# Altium schematic symbol library Schlib1.SchLib: 8 symbols
Pins are listed as number, name and electrical type; pins without a type are passive.

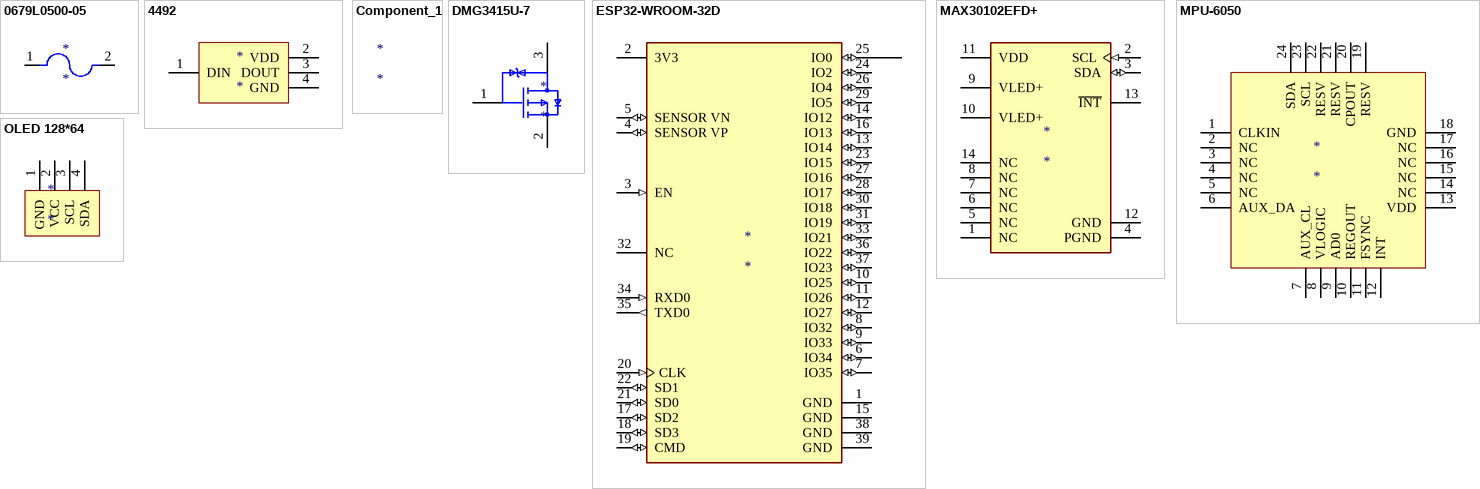
[diagram p0: symbols 0679L0500-05 to OLED 128*64]

## 0679L0500-05
designator *
Fuse Brd Mnt 500MA 125VAC/VDC; Manufacturer: Bel; Manufacturer Part Number: 0679L0500-05; Fuse Type: Board Mount (Cartridge Style Excluded); Voltage Rating (AC): 125V; DC Cold Resistance: 240mR; Approvals: cURus; Supplier 1: Digi-Key; RoHS: Yes; Category: Fuses; Stock 1: 4711; Pricing 1: 1=0.32000, 5=0.31000, 10=0.29600, 50=0.26400, 100=0.24570, 250=0.21840, 500=0.18200, 1000=0.17290 (USD); Mount: Surface Mount; Case/Package: 2410; Case Code (Imperial): 2410; Case Code (Metric): 6125; Min Operating Temperature: -55°C; Max Operating Temperature: 125°C; Packaging: Tape and Reel; Current Rating: 500mA; Voltage Rating (DC): 125V; Length: 0.24inch; Width: 0.1inch; Height: 0.11inch; ComponentLink1URL: http://www.belfuse.com/resources/CircuitProtection/datasheets/0679L%20Sep2016.pdf?src-supplier=Digi-Key; ComponentLink1Description: http://www.belfuse.com/resources/CircuitProtection/datasheets/0679L%20Sep2016.pdf?src-supplier=Digi-Key; Supplier Part Number 1: 507-1983-1-ND
footprint FUSE
pins: 1, 2

## 4492
designator *
Manufacturer: Adafruit Industries; Manufacturer Part Number: 4492; Supplier 1: Newark; RoHS: No; Pricing 1: 1=3.95000 (USD); Supplier Part Number 1: 54AH5116
footprint LED adafruit
pins: 1 DIN, 2 VDD, 3 DOUT, 4 GND

## Component_1
designator *

## DMG3415U-7
designator *
MOSFET P-CH 20V 4A SOT-23; Manufacturer: Diodes; Manufacturer Part Number: DMG3415U-7; Rise Time: 117ns; Gate to Source Voltage (Vgs): 8V; Fall Time: 393ns; Turn-Off Delay Time: 795ns; Turn-On Delay Time: 71ns; Rds On Max: 39mR; Input Capacitance: 294pF; Max Power Dissipation: 900mW; Number of Elements: 1; Drain to Source Resistance: 42.5mR; Element Configuration: Single; Drain to Source Breakdown Voltage: -20V; Nominal Vgs: -550mV; Polarity: P-CHANNEL; Supplier 1: Digi-Key; RoHS: Yes; Category: MOSFETs; Stock 1: 24000; Pricing 1: 1=0.43000, 10=0.30500, 25=0.29160, 100=0.15370, 500=0.13620, 1000=0.10600 (USD); Mount: Surface Mount; Case/Package: SOT-23; Number of Pins: 3; Weight: 0.000282oz; Contact Plating: Tin,Matte; Min Operating Temperature: -55°C; Max Operating Temperature: 150°C; Continuous Drain Current (ID): 4A; Packaging: Tape and Reel; Drain to Source Voltage (Vdss): 20V; Package Quantity: 3000; Number of Channels: 1; Power Dissipation: 900mW; On-State Resistance: 42.5mR; Threshold Voltage: -550mV; Series: -; Drain-source On Resistance-Max: 42.5mR; Length: 2.9mm; Width: 1.3mm; Height: 1mm; Radiation Hardening: No; REACH SVHC: No SVHC; Lead Free: Lead Free; RoHS Compliant: Yes; ComponentLink1URL: https://datasheet.ciiva.com/11174/ds31735-11174977.pdf?src-supplier=Avnet; ComponentLink1Description: https://datasheet.ciiva.com/11174/ds31735-11174977.pdf?src-supplier=Avnet; ComponentLink2URL: https://datasheet.ciiva.com/13061/ds31735-64958-13061831.pdf?src-supplier=Mouser; ComponentLink2Description: https://datasheet.ciiva.com/13061/ds31735-64958-13061831.pdf?src-supplier=Mouser; ComponentLink3URL: https://datasheet.ciiva.com/935/ds31735-935015.pdf?src-supplier=Digi-Key; ComponentLink3Description: https://datasheet.ciiva.com/935/ds31735-935015.pdf?src-supplier=Digi-Key; ComponentLink4URL: https://datasheet.ciiva.com/8023/ds31735-8023980.pdf?src-supplier=Element14; ComponentLink4Description: https://datasheet.ciiva.com/8023/ds31735-8023980.pdf?src-supplier=Element14; ComponentLink5URL: https://datasheet.ciiva.com/8115/ds31735-8115357.pdf?src-supplier=Avnet; ComponentLink5Description: https://datasheet.ciiva.com/8115/ds31735-8115357.pdf?src-supplier=Avnet; ComponentLink6URL: https://datasheet.ciiva.com/16387/ds31735-16387485.pdf?src-supplier=Future+Electronics; ComponentLink6Description: https://datasheet.ciiva.com/16387/ds31735-16387485.pdf?src-supplier=Future+Electronics; ComponentLink7URL: https://datasheet.ciiva.com/935/ds31735-935013.pdf?src-supplier=Digi-Key; ComponentLink7Description: https://datasheet.ciiva.com/935/ds31735-935013.pdf?src-supplier=Digi-Key; ComponentLink8URL: https://datasheet.ciiva.com/935/ds31735-935014.pdf?src-supplier=Digi-Key; ComponentLink8Description: https://datasheet.ciiva.com/935/ds31735-935014.pdf?src-supplier=Digi-Key; ComponentLink9URL: https://datasheet.ciiva.com/22712/1915618-22712394.pdf?src-supplier=Element14; ComponentLink9Description: https://datasheet.ciiva.com/22712/1915618-22712394.pdf?src-supplier=Element14; Supplier Part Number 1: DMG3415UDICT-ND
footprint DMG3415U
pins: 1 G, 2 S, 3 D

## ESP32-WROOM-32D
designator *
Wi-Fi/BT BLE Module ESP32-D0WD, SPI Flash, UART, P; Manufacturer: Espressif Systems; Manufacturer Part Number: ESP32-WROOM-32D; Frequency: 2.5GHz; Data Rate: 150Mbps; Interface: I2C,SPI,GPIO,PWM,SDIO,UART; Sensitivity: -98dBm; Memory Size: 536KB; Supplier 1: Conrad; RoHS: No; Category: RF Receivers, Transceivers; Pricing 1: 1=5.99000 (EUR); Mount: Surface Mount; Case/Package: SMD/SMT; Min Operating Temperature: -40°C; Max Operating Temperature: 85°C; Packaging: Cut Tape; ComponentLink1URL: https://www.espressif.com/sites/default/files/documentation/esp32-wroom-32d_esp32-wroom-32u_datasheet_en.pdf?src-supplier=Digi-Key; ComponentLink1Description: https://www.espressif.com/sites/default/files/documentation/esp32-wroom-32d_esp32-wroom-32u_datasheet_en.pdf?src-supplier=Digi-Key; Supplier Part Number 1: 1925467
pins: 1 GND (power), 2 3V3 (power), 3 EN (in), 4 SENSOR VP (io), 5 SENSOR VN (io), 6 IO34 (io), 7 IO35 (io), 8 IO32 (io), 9 IO33 (io), 10 IO25 (io), 11 IO26 (io), 12 IO27 (io), 13 IO14 (io), 14 IO12 (io), 15 GND (power), 16 IO13 (io), 17 SD2 (io), 18 SD3 (io), 19 CMD (io), 20 CLK (in), 21 SD0 (io), 22 SD1 (io), 23 IO15 (io), 24 IO2 (io), 25 IO0 (io) "GPIO0", 26 IO4 (io), 27 IO16 (io), 28 IO17 (io), 29 IO5 (io), 30 IO18 (io), 31 IO19 (io), 32 NC, 33 IO21 (io), 34 RXD0 (in), 35 TXD0 (out), 36 IO22 (io), 37 IO23 (io), 38 GND (power), 39 GND (power)

## MAX30102EFD+
designator *
IC SENSOR OXIMETER/HEARTRATE; Manufacturer: Maxim; Manufacturer Part Number: MAX30102EFD+; Min Supply Voltage: 1.7V; Max Supply Voltage: 2V; Supplier 1: Digi-Key; RoHS: Yes; Category: Decoders and Multiplexers; Stock 1: 209; Pricing 1: 1=9.76000, 10=8.81500, 25=8.40480, 100=7.29800 (USD); Number of Pins: 14; Min Operating Temperature: -40°C; Max Operating Temperature: 85°C; REACH SVHC: No SVHC; ComponentLink1URL: http://www.farnell.com/datasheets/2162814.pdf?src-supplier=Farnell; ComponentLink1Description: http://www.farnell.com/datasheets/2162814.pdf?src-supplier=Farnell; ComponentLink2URL: http://www.farnell.com/datasheets/2162814.pdf?src-supplier=Element14; ComponentLink2Description: http://www.farnell.com/datasheets/2162814.pdf?src-supplier=Element14; ComponentLink3URL: https://datasheets.maximintegrated.com/en/ds/MAX30102.pdf?src-supplier=Digi-Key; ComponentLink3Description: https://datasheets.maximintegrated.com/en/ds/MAX30102.pdf?src-supplier=Digi-Key
footprint MAX30102
pins: 1 NC, 2 SCL (in), 3 SDA (io), 4 PGND (power), 5 NC, 6 NC, 7 NC, 8 NC, 9 VLED+ (power), 10 VLED+ (power), 11 VDD (power), 12 GND (power), 13 ~{INT} (oc), 14 NC

## MPU-6050
designator *
INVENSENSE   MPU-6050   GYRO / ACCEL, 6-AXIS, I2C, QFN-24; Manufacturer: TDK InvenSense; Sensor Type: Accelerometer,Gyroscope,3 Axis; Supplier 1: Digi-Key; Manufacturer Part Number: MPU-6050; RoHS: Yes; Category: Inertial Measurement Units (IMUs); Stock 1: 4311; Pricing 1: 1=7.55000, 5=6.62600, 10=5.96300, 25=5.30000, 50=4.90260, 100=4.24000, 500=3.97500, 1000=3.71000 (USD); Mount: Surface Mount; Case/Package: QFN; Min Operating Temperature: -40°C; Max Operating Temperature: 85°C; Packaging: Tape and Reel; Output Type: I2C; ComponentLink1URL: https://datasheet.ciiva.com/1513/1788002-1513632.pdf?src-supplier=Element14; ComponentLink1Description: https://datasheet.ciiva.com/1513/1788002-1513632.pdf?src-supplier=Element14; ComponentLink2URL: https://datasheet.ciiva.com/22731/1788002-22731434.pdf?src-supplier=Element14; ComponentLink2Description: https://datasheet.ciiva.com/22731/1788002-22731434.pdf?src-supplier=Element14; Supplier Part Number 1: 1428-1007-1-ND
footprint MPU-6050
pins: 1 CLKIN, 2 NC, 3 NC, 4 NC, 5 NC, 6 AUX_DA, 7 AUX_CL, 8 VLOGIC, 9 AD0, 10 REGOUT, 11 FSYNC, 12 INT, 13 VDD, 14 NC, 15 NC, 16 NC, 17 NC, 18 GND, 19 RESV, 20 CPOUT, 21 RESV, 22 RESV, 23 SCL, 24 SDA

## OLED 128*64
designator *
footprint 4pins smd
pins: 1 GND, 2 VCC, 3 SCL, 4 SDA